# EAGLE library part MAX3051 (library at91sam7x-ek)
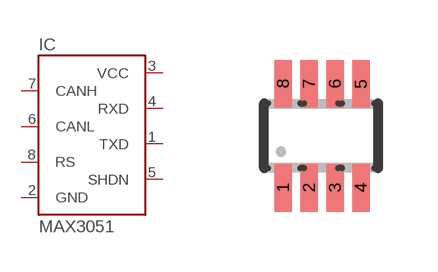
[diagram p4: symbol with the pads of SOT23-8L; footprint SOT23-8L]

Designator prefix IC

## MAX3051EKA  [SOT23-8L]
1  TXD  in
2  GND  pwr
3  VCC  pwr
4  RXD  out
5  SHDN  pas
6  CANL
7  CANH
8  RS  in

## Footprint SOT23-8L (pad centres in mm)
Small Outline Transistor
smd 0.44 x 1.2: 1 -0.95,-1.3; 2 -0.3,-1.3; 3 0.35,-1.3; 4 1,-1.3; 5 1,1.3; 6 0.35,1.3; 7 -0.3,1.3; 8 -0.95,1.3